# EAGLE library part 690207102672 (library Wurth_Connectors_WR-MM)
WR-MM Transition Connector KIND PROPERTIES: Pitch 2.54 mm Gender:Transition MATERIAL PROPERTIES: Insulator Material:PBT Insulator Flammability Rating UL94 V-0 Insulator Color:Red Contact Material :Phosphor Bronze Contact Plating :Mat Tin over Nickel Contact Type: Stamped GENERAL PROPERTIES: Operating Temperature:-40 °C up to +105 °C Compliance Lead free / RoHS ELECTRICAL PROPERTIES: IR 1:1 A Working Voltage 100 V (AC) Withstanding Voltage:500 V (AC) Contact Resistance: 10 mΩ Insulation Resistance:1000 MΩ PACKAGING PROPERTIES: cULus Approval:E323964 Packaging :Tube <https://katalog.we-online.com/media/images/v2/o33156v209%20Family_WR-MM_69020710xx72.jpg> Details see: https://katalog.we-online.com/en/em/MM_TRANSITION_CONNECTOR_69020710XX72 Updated by Yingchun,Shan 2019-10-28 2019 (C) Würth Elektronik
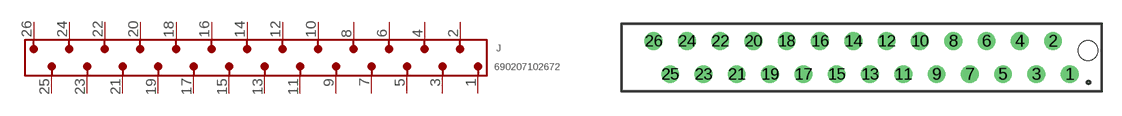
[diagram p3: symbol with the pads of 690207102672; footprint 690207102672]

Designator prefix J

## 690207102672 (CONTACT-RESISTANCE: 10mOhm; DATASHEET-URL: https://www.we-online.com/catalog/datasheet/690207102672.pdf; GENDER: Transition; IR: 1A; L: 36.45mm; PACKAGING: Tube; PART-NUMBER: 690207102672; PINS: 26; PITCH: 2.54; TYPE: Straight; VALUE: 690207102672; WORKING-VOLTAGE: 100V(AC))  [690207102672]
1  1  pas
2  2  pas
3  3  pas
4  4  pas
5  5  pas
6  6  pas
7  7  pas
8  8  pas
9  9  pas
10  10  pas
11  11  pas
12  12  pas
13  13  pas
14  14  pas
15  15  pas
16  16  pas
17  17  pas
18  18  pas
19  19  pas
20  20  pas
21  21  pas
22  22  pas
23  23  pas
24  24  pas
25  25  pas
26  26  pas

## Footprint 690207102672 (pad centres in mm)
WR-MM Transition Connector,26 Pins
drill 0.85: 1 15.875,-1.27; 2 14.605,1.27; 3 13.335,-1.27; 4 12.065,1.27; 5 10.795,-1.27; 6 9.525,1.27; 7 8.255,-1.27; 8 6.985,1.27; 9 5.715,-1.27; 10 4.445,1.27; 11 3.175,-1.27; 12 1.905,1.27; 13 0.635,-1.27; 14 -0.635,1.27; 15 -1.905,-1.27; 16 -3.175,1.27; 17 -4.445,-1.27; 18 -5.715,1.27; 19 -6.985,-1.27; 20 -8.255,1.27; 21 -9.525,-1.27; 22 -10.795,1.27; 23 -12.065,-1.27; 24 -13.335,1.27; 25 -14.605,-1.27; 26 -15.875,1.27
hole 1.5 at 17.275,0.53